# Altium schematic symbol library testpoint.SchLib: 1 symbol
Pins are listed as number, name and electrical type; pins without a type are passive.

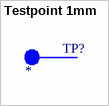
[diagram p0: symbol Testpoint 1mm]

## Testpoint 1mm
designator TP?
footprint PCBComponent_1
pins: 1 TP